# EAGLE library part 6861XX183822_686120183822 (library WR-FPC)
WR-FPC 1.00 mm SMT ZIF Vertical Type A General Information Pitch 1 mm Material Properties Insulator Material PA6T Contact Material Phosphor Bronze Contact Plating 120 (µ") Tin over 30 (µ") Nickel Solder Tabs Brass <https://www.we-online.com/components/media/o83988v209%20Family_WR-FPC_6861xx183822.jpg> Details see: www.we-online.com/en/components/products/FPC_1_00_SMT_ZIF_VERTICAL_TYPE_A_6861XX183822 <www.we-online.com/catalog/FPC_1_00_SMT_ZIF_VERTICAL_TYPE_A_6861XX183822/?utm_source=eagle_model&utm_medium=description_link&utm_campaign=eisos_eagle> Updated by Ella Wu, 2020-08-25 2020 (C) Würth Elektronik
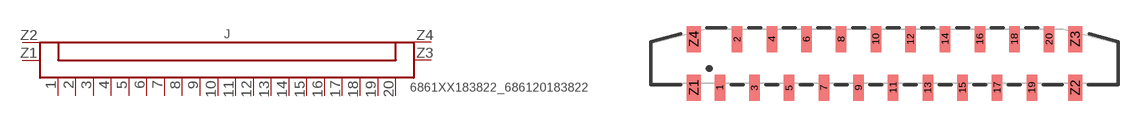
[diagram p176: symbol with the pads of 686120183822; footprint 686120183822]

Designator prefix J

## 6861XX183822_686120183822 (CONTACT-RESISTANCE: 30mOhm; DATASHEET-URL: https://www.we-online.com/redexpert/spec/686120183822?ae; IR: 1A; L: 26.8mm; MATE-WITH: WR-FFC 1.00 mm Flat Flexible Cable Type 1 (Contacts on same side)/ Type 2 (Contacts opposite); PACKAGING: Tape and Reel; PART-NUMBER: 686120183822; PINS: 20; PITCH: 1mm; TYPE: Vertical; VALUE: 686120183822; WORKING-VOLTAGE: 125V(AC))  [686120183822]
1  1  pas
2  2  pas
3  3  pas
4  4  pas
5  5  pas
6  6  pas
7  7  pas
8  8  pas
9  9  pas
10  10  pas
11  11  pas
12  12  pas
13  13  pas
14  14  pas
15  15  pas
16  16  pas
17  17  pas
18  18  pas
19  19  pas
20  20  pas
Z1  Z1  pas
Z2  Z2  pas
Z3  Z3  pas
Z4  Z4  pas

## Footprint 686120183822 (pad centres in mm)
WR-FPC 1.00 mm SMT ZIF Vertical Type A, 20Pins
smd 0.6 x 1.5: 1 -9.5,-1.8; 2 -8.5,1; 3 -7.5,-1.8; 4 -6.5,1; 5 -5.5,-1.8; 6 -4.5,1; 7 -3.5,-1.8; 8 -2.5,1; 9 -1.5,-1.8; 10 -0.5,1; 11 0.5,-1.8; 12 1.5,1; 13 2.5,-1.8; 14 3.5,1; 15 4.5,-1.8; 16 5.5,1; 17 6.5,-1.8; 18 7.5,1; 19 8.5,-1.8; 20 9.5,1
smd 0.8 x 1.5: Z1 -11,-1.8; Z2 11,-1.8; Z3 11,1; Z4 -11,1